# Altium schematic symbol library My.SchLib: 73 symbols
Pins are listed as number, name and electrical type; pins without a type are passive.

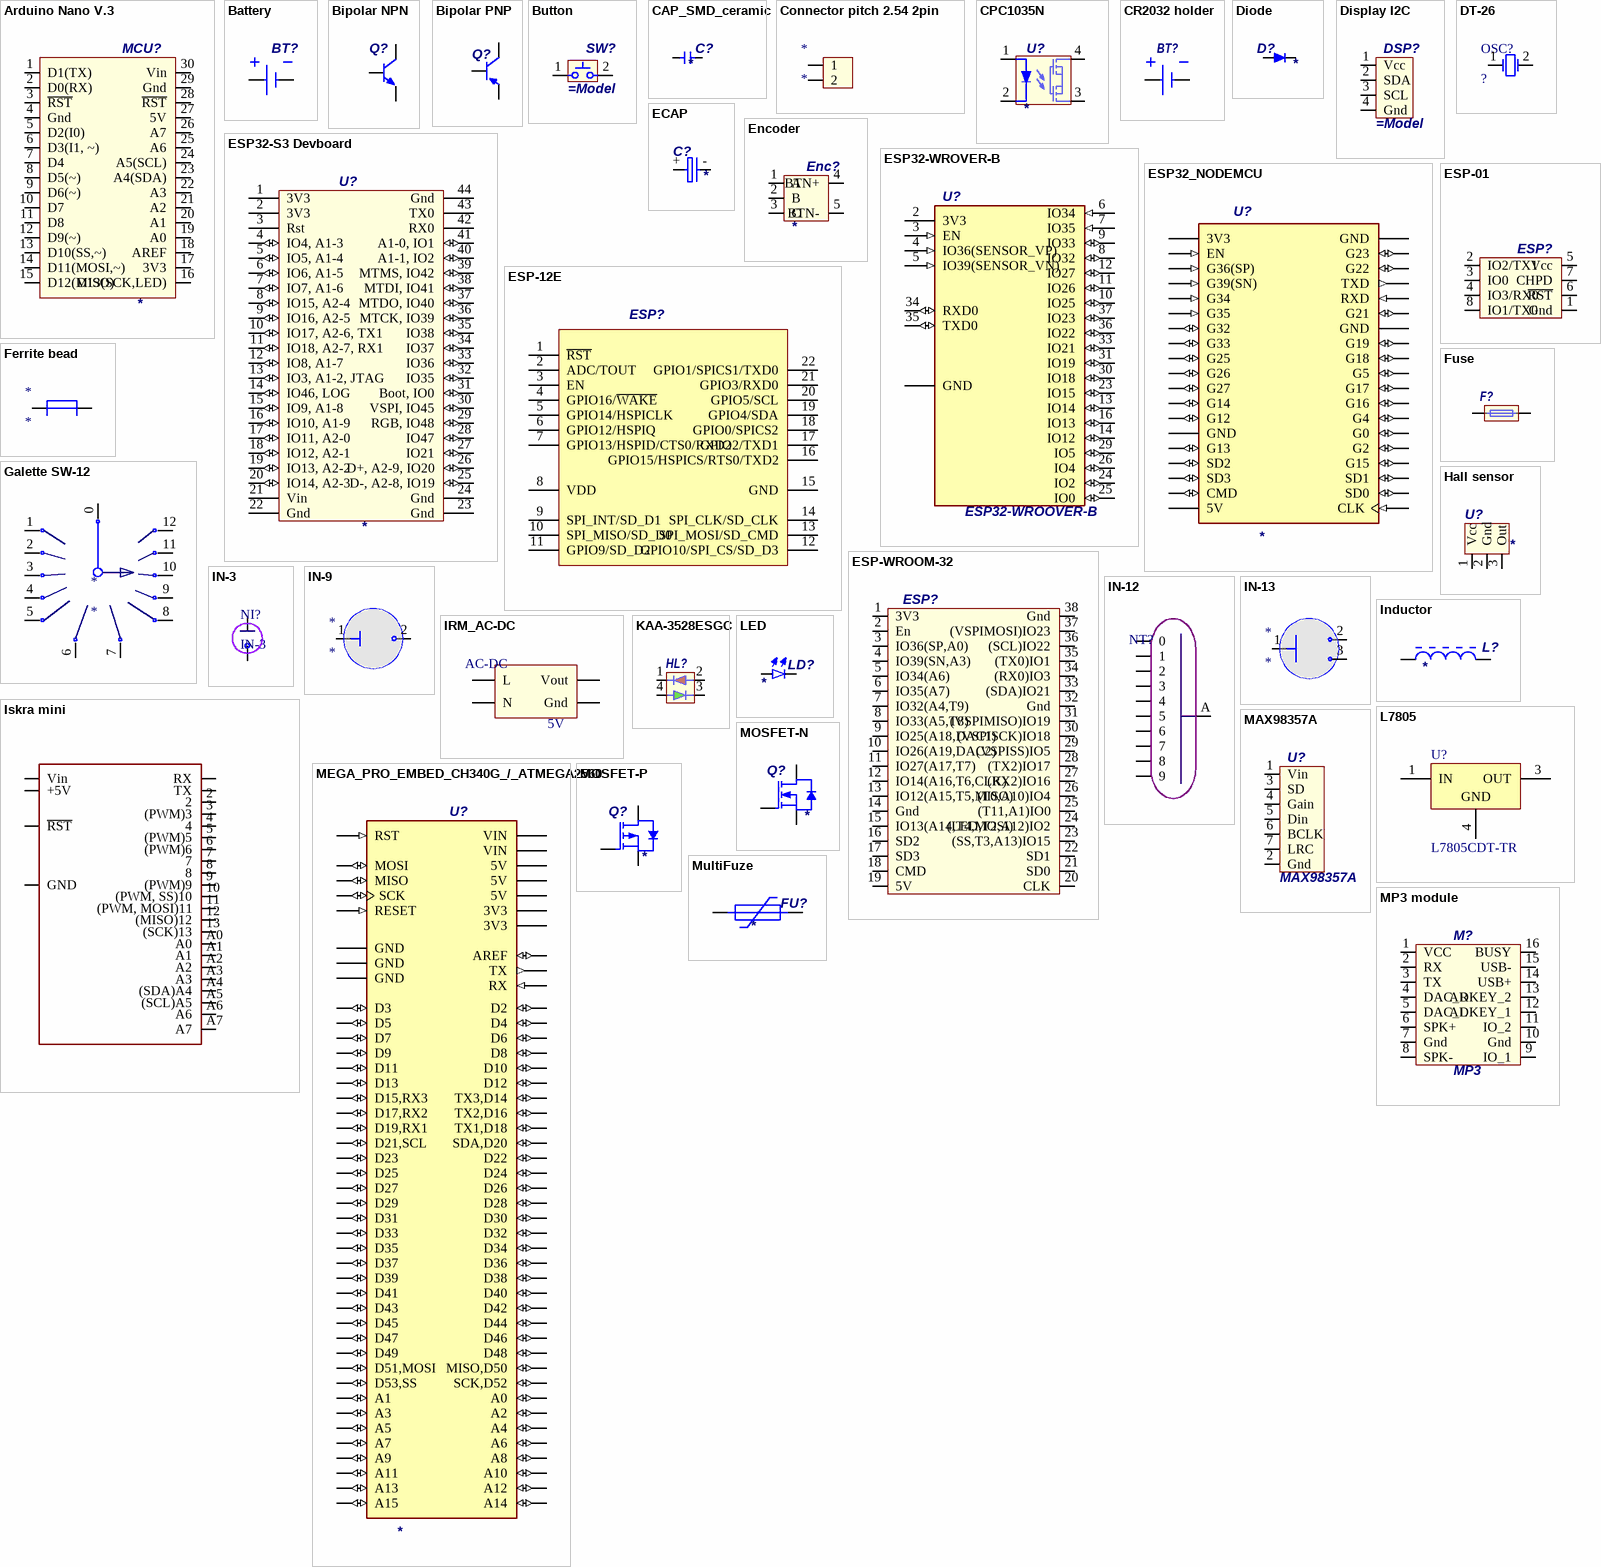
[diagram p0: symbols Arduino Nano V.3 to MultiFuze]

## Arduino Nano V.3
designator MCU?
footprint Arduino Nano V3.0
pins: 1 D1(TX), 2 D0(RX), 3 ~{RST}, 4 Gnd, 5 D2(I0), 6 D3(I1, ~), 7 D4, 8 D5(~), 9 D6(~), 10 D7, 11 D8, 12 D9(~), 13 D10(SS,~), 14 D11(MOSI,~), 15 D12(MISO), 16 D13(SCK,LED), 17 3V3, 18 AREF, 19 A0, 20 A1, 21 A2, 22 A3, 23 A4(SDA), 24 A5(SCL), 25 A6, 26 A7, 27 5V, 28 ~{RST}, 29 Gnd, 30 Vin

## Battery
designator BT?
footprint CR2032 holder (Lithium Battery Holder)
footprint CR1220_tagged (CR1220 battery with targs for soldering); pin to pad 1>2 2>1
pins: 1 +, 2 -

## Bipolar NPN
designator Q?
C-E Voltage: *; Collector current: *; Power dissipation: *
footprint SOT-23 (SOT23, 3-Leads, Body 2.9x1.3mm, Pitch 0.95mm, Lead Span 2.3mm, IPC Medium Density)
footprint SOT-223 (SOT223, 4-Leads, Body 6.5x3.5mm, Pitch 2.3mm, Lead Span 7mm, IPC Low Density)
footprint KT-13
pins: 1 B, 2 E, 3 C

## Bipolar PNP
designator Q?
C-E Voltage: *; Collector current: *; Power dissipation: *
footprint SOT-23 (SOT23, 3-Leads, Body 2.9x1.3mm, Pitch 0.95mm, Lead Span 2.3mm, IPC Medium Density)
pins: 1 B, 2 E, 3 C

## Button
designator SW?
footprint SMD button 6x6x4.3 (SMD, 4-Leads, Body 6x6mm, Pitch 4.5mm); pin to pad 1>1+2 2>3+4
footprint Btn-6x6x3; pin to pad 1>1+2 2>3+4
footprint FSMSM (SMD microbutton)
pins: 1, 2

## CAP_SMD_ceramic
designator C?
Value: *; Voltage: *
footprint CAPC0201
footprint CAPC0402
footprint CAPC0603
footprint CAPC0805
footprint CAPC1206
footprint CAPC1210
footprint CAPC1808
footprint CAPC1812
footprint CAPC1825
footprint CAPC2220
footprint CAPC2225
footprint CAPC3640
pins: 1, 2
1 alternate drawing of the same symbol

## Connector pitch 2.54 2pin
designator *
footprint HDR1X2
footprint HDR X2V
pins: 1 (power), 2 (power)

## CPC1035N
designator U?
Model: *
footprint SO-4
pins: 1, 2, 3, 4

## CR2032 holder
designator BT?
footprint CR2032 holder (Lithium Battery Holder)
pins: 1 +, 2 -

## Diode
designator D?
Model: *; Current: *; Voltade: *
footprint DO-201AD (THD, 2-Leads, Body 9.5x5.3mm)
footprint DO-240al (THD, 2-Leads, Body 5.2x2.72mm, Pin Spacing 7.8mm)
footprint SMA
footprint SMC (SMT Diode, 2 C-Bend Leads, Body 7.9x5.9mm)
footprint SMB (Molded, 2-Leads, Body 4.6x3.95mm)
pins: 1 A, 2 K

## Display I2C
designator DSP?
footprint OLED 0.91" 128x32; pin to pad 1>3 2>1 3>2
pins: 1 Vcc, 2 SDA, 3 SCL, 4 Gnd

## DT-26
designator OSC?, comment ?
footprint DT-28 (Crystal oscillator)
pins: 1 OSC1, 2 OSC2

## ECAP
designator C?
Value: *; Voltage: *
footprint CAP ElLyte D13
footprint ECAP 8*14mm
footprint ECAP 8*7mm (ECAP 8*14mm)
footprint ECAP 10*22mm_angle (ECAP 8*14mm)
pins: + 1 (power), - 2 (power)

## Encoder
designator Enc?
Model: *
pins: 1 A, 2 B, 3 C, 4 BTN+, 5 BTN-

## ESP32-S3 Devboard
designator U?
Model: *
footprint ESP32-S3 Devboard
pins: 1 3V3 (power), 2 3V3 (power), 3 Rst, 4 IO4, A1-3 (io), 5 IO5, A1-4 (io), 6 IO6, A1-5 (io), 7 IO7, A1-6 (io), 8 IO15, A2-4 (io), 9 IO16, A2-5 (io), 10 IO17, A2-6, TX1 (io), 11 IO18, A2-7, RX1 (io), 12 IO8, A1-7 (io), 13 IO3, A1-2, JTAG (io), 14 IO46, LOG (io), 15 IO9, A1-8 (io), 16 IO10, A1-9 (io), 17 IO11, A2-0 (io), 18 IO12, A2-1 (io), 19 IO13, A2-2 (io), 20 IO14, A2-3 (io), 21 Vin (power), 22 Gnd (power), 23 Gnd (power), 24 Gnd (power), 25 D-, A2-8, IO19 (io), 26 D+, A2-9, IO20 (io), 27 IO21 (io), 28 IO47 (io), 29 RGB, IO48 (io), 30 VSPI, IO45 (io), 31 Boot, IO0 (io), 32 IO35 (io), 33 IO36 (io), 34 IO37 (io), 35 IO38 (io), 36 MTCK, IO39 (io), 37 MTDO, IO40 (io), 38 MTDI, IO41 (io), 39 MTMS, IO42 (io), 40 A1-1, IO2 (io), 41 A1-0, IO1 (io), 42 RX0, 43 TX0, 44 Gnd (power)

## ESP32-WROVER-B
designator U?, comment ESP32-WROOVER-B
Bluetooth, WiFi 802.11b/g/n, Bluetooth v4.2 +EDR, Class 1, 2 and 3 Transceiver Module 2.4GHz ~ 2.5GHz PCB Trace Surface Mount; MF: Espressif Systems; MP: ESP32-WROVER-B; Value: *; Package: Module Espressif Systems; Check_prices: https://www.snapeda.com/parts/ESP32-WROVER-B/Espressif+Systems/view-part/?ref=eda; Price: None; Availability: Not in stock; SnapEDA_Link: https://www.snapeda.com/parts/ESP32-WROVER-B/Espressif+Systems/view-part/?ref=snap
footprint MODULE_ESP32-WROVER-B; pin to pad 1>1+15+38+39+40+41+42+43+44+45+46+47
pins: 1 GND (power), 2 3V3 (power), 3 EN (in), 4 IO36(SENSOR_VP) (in), 5 IO39(SENSOR_VN) (in), 6 IO34 (in), 7 IO35 (in), 8 IO32 (io), 9 IO33 (io), 10 IO25 (io), 11 IO26 (io), 12 IO27 (io), 13 IO14 (io), 14 IO12 (io), 16 IO13 (io), 23 IO15 (io), 24 IO2 (io), 25 IO0 (io), 26 IO4 (io), 29 IO5 (io), 30 IO18 (io), 31 IO19 (io), 33 IO21 (io), 34 RXD0 (io), 35 TXD0 (io), 36 IO22 (io), 37 IO23 (io)

## ESP32_NODEMCU
designator U?
NodeMCU is an open source loT platform. ESP32 is a series of low cost, low powersystem-on-chip (SoC) microcontrollers with integrated Wi-Fi & dual-mode Bluetooth.; MF: Espressif Systems; MP: ESP32 NODEMCU; SnapEDA_Link: https://www.snapeda.com/parts/ESP32%20NODEMCU/Espressif+Systems/view-part/?ref=snap; Package: Package; Value: *; Check_prices: https://www.snapeda.com/parts/ESP32%20NODEMCU/Espressif+Systems/view-part/?ref=eda
footprint MODULE_ESP32_NODEMCU
pins: J4_1 GND (power), J4_2 G23 (io), J4_3 G22 (io), J4_4 TXD (out), J4_5 RXD (in), J4_6 G21 (io), J4_7 GND (power), J4_8 G19 (io), J4_9 G18 (io), J4_10 G5 (io), J4_11 G17 (io), J4_12 G16 (io), J4_13 G4 (io), J4_14 G0 (io), J4_15 G2 (io), J4_16 G15 (io), J4_17 SD1 (io), J4_18 SD0 (io), J4_19 CLK (in), J5_1 5V (power), J5_2 CMD (io), J5_3 SD3 (io), J5_4 SD2 (io), J5_5 G13 (io), J5_6 GND (power), J5_7 G12 (io), J5_8 G14 (io), J5_9 G27 (io), J5_10 G26 (io), J5_11 G25 (io), J5_12 G33 (io), J5_13 G32 (io), J5_14 G35 (in), J5_15 G34 (in), J5_16 G39(SN) (in), J5_17 G36(SP) (in), J5_18 EN (in), J5_19 3V3 (power)

## ESP-01
designator ESP?
footprint ESP-01
pins: 1 Gnd, 2 IO2/TX1, 3 IO0, 4 IO3/RX0, 5 Vcc, 6 ~{RST}, 7 CHPD, 8 IO1/TX0

## ESP-12E
designator ESP?
footprint ESP8266 ESP-12-F
pins: 1 ~{RST} "Reset", 2 ADC/TOUT "ADC Input Or TOUT Output", 3 EN "Chip enable", 4 GPIO16/~{WAKE} "GPIO16 or Deep-Sleep Wakeup", 5 GPIO14/HSPICLK "GPIO14 or SPI CLK", 6 GPIO12/HSPIQ "GPIO12 or SPIQ", 7 GPIO13/HSPID/CTS0/RXD2 "GPIO13 or SPID", 8 VDD "Power supply", 9 SPI_INT/SD_D1 "GPIO2 or TX", 10 SPI_MISO/SD_D0 "GPIO12 or SPIQ", 11 GPIO9/SD_D2 "GPIO13 or SPID", 12 GPIO10/SPI_CS/SD_D3 "GPIO15 or SPICS", 13 SPI_MOSI/SD_CMD "GPIO14 or SPI CLK", 14 SPI_CLK/SD_CLK "GPIO0 or SPICS2", 15 GND "Power ground", 16 GPIO15/HSPICS/RTS0/TXD2 "GPIO15 or SPICS", 17 GPIO2/TXD1 "GPIO2 or TX", 18 GPIO0/SPICS2 "GPIO0 or SPICS2", 19 GPIO4/SDA "GPIO5", 20 GPIO5/SCL "GPIO4", 21 GPIO3/RXD0 "GPIO3 or UART RXD", 22 GPIO1/SPICS1/TXD0 "GPIO1 or UART TXD"

## ESP-WROOM-32
designator ESP?  (value not drawn)
footprint NodeMCU-32S
pins: 1 3V3, 2 En, 3 IO36(SP,A0), 4 IO39(SN,A3), 5 IO34(A6), 6 IO35(A7), 7 IO32(A4,T9), 8 IO33(A5,T8), 9 IO25(A18,DAC1), 10 IO26(A19,DAC2), 11 IO27(A17,T7), 12 IO14(A16,T6,CLK), 13 IO12(A15,T5,MISO), 14 Gnd, 15 IO13(A14,T4,MOSI), 16 SD2, 17 SD3, 18 CMD, 19 5V, 20 CLK, 21 SD0, 22 SD1, 23 (SS,T3,A13)IO15, 24 (LED,T2,A12)IO2, 25 (T11,A1)IO0, 26 (T0,A10)IO4, 27 (RX2)IO16, 28 (TX2)IO17, 29 (VSPISS)IO5, 30 (VSPISCK)IO18, 31 (VSPIMISO)IO19, 32 Gnd, 33 (SDA)IO21, 34 (RX0)IO3, 35 (TX0)IO1, 36 (SCL)IO22, 37 (VSPIMOSI)IO23, 38 Gnd

## Ferrite bead
designator *
footprint Ferrite bead v.1
pins: 1, 2

## Fuse
designator F?
footprint FH (Fuse)
pins: 1, 2

## Galette SW-12
designator *
pins: 0 (power), 1 (power), 2 (power), 3 (power), 4 (power), 5 (power), 6 (power), 7 (power), 8 (power), 9 (power), 10 (power), 11 (power), 12 (power)

## Hall sensor
designator U?
Model: *
footprint SIP-3
pins: 1 Vcc, 2 Gnd, 3 Out

## IN-3
designator NI?
footprint IN-3
pins: 1 A, 2 C

## IN-9
designator *
footprint IN-9
pins: 1 2, 2 1

## IN-12
designator NT?  (value not drawn)
footprint IN-12
pins: 0 (power), 1 (power), 2 (power), 3 (power), 4 (power), 5 (power), 6 (power), 7 (power), 8 (power), 9 (power), A (power)

## IN-13
designator *
footprint IN-13
pins: 1 2, 2 1, 3 1

## Inductor
designator L?
Value: *
footprint SRR1280 (SMD, 2-Leads, Body 12.5x12.5mm)
footprint CM4532
footprint SDR0805 (SMD, 2-Leads, Body Dia 7.8 mm)
footprint SDR0604 (SMD, 2-Leads, Dia 5.8mm)
footprint EC24 (TH inductor)
footprint RLB1314 (BOURNS inductor)
footprint NLCV32 (Molded Inductor, 2-Leads, Body 3.4 x 2.7 mm)
footprint L2525 (6363) (Shielded inductor)
footprint SRU8043 (Shielded inductor)
pins: 1, 2

## IRM_AC-DC
designator AC-DC  Out voltage: 5V  (hidden comment: *)
Out current: 1A; ComponentLink1Description: Datasheet; ComponentLink1URL: https://lib.chipdip.ru/868/DOC002868502.pdf
footprint IRM_AC-DC (AC-DC converter)
pins: Gnd, L, N, Vout

## Iskra mini
designator PL?, comment MC platform
Type: MC platform
footprint Iskra Mini
pins: 2, 3 (PWM)3, 4, 5 (PWM)5, 6 (PWM)6, 7, 8, 9 (PWM)9, 10 (PWM, SS)10, 11 (PWM, MOSI)11, 12 (MISO)12, 13 (SCK)13, +5V, A0, A1, A2, A3, A4 (SDA)A4, A5 (SCL)A5, A6, A7, GND, RST ~{RST}, RX, TX, Vin

## KAA-3528ESGC
designator HL?  (value not drawn)
footprint KAA-3528ESGC
pins: 1, 2, 3, 4

## L7805
designator U?, comment L7805CDT-TR
Positive Voltage Regulator, 3-Pin DPAK, Tape and Reel; PackageVersion: 2011; PackageReference: TO-252; DatasheetVersion: 16/11/2011; PackageDescription: 3-Pin Transistor Outline Package 2.28 mm Pitch, 9.7 mm Lead Span (DPAK); ComponentLink1URL: http://www.st.com; ComponentLink2Description: Datasheet; ComponentLink1Description: Manufacturer URL; ComponentLink2URL: http://www.st.com/internet/com/TECHNICAL_RESOURCES/TECHNICAL_LITERATURE/DATASHEET/CD00000444.pdf
footprint D-PAK (D-PAK, 4-Leads, Body 6.1x6.6mm, Pitch 2.28mm, Lead Span 9.8mm, IPC Low Density)
pins: 1 IN (power), 3 OUT (power), 4 GND (power)

## LED
designator LD?
Color: *; Voltage: *; Current: *; Case: *; Model: *
footprint LED_SMD_0603 (SMD, 2-Leads, Body 1.6x0.8mm)
footprint LED_SMD_0805 (Chip LED, 2-Leads, Body 2.0x1.3mm, IPC Medium Density)
footprint LED_SMD_1206 (Chip LED, 2-Leads, Body 3.2x1.6mm, IPC Medium Density)
footprint LED THD 5 mm (THD, 2-Leads, Dia 3.85mm, Height 7mm, Pin Spacing 2.54mm)
footprint LED-THD-3mm
pins: 1 A, 2 K

## MAX98357A
designator U?
3W I2S audio mudule
footprint MAX98357A module
pins: 1 Vin, 2 Gnd, 3 SD, 4 Gain, 5 Din, 6 BCLK, 7 LRC

## MEGA_PRO_EMBED_CH340G_/_ATMEGA2560
designator U?
Mega 2560 PRO (Embed) CH340G/ATmega2560-16AU; MP: MEGA_PRO_EMBED_CH340G_/_ATMEGA2560; Price: None; Value: *; Package: None; Availability: Unavailable
footprint MODULE_MEGA_PRO_EMBED_CH340G_/_ATMEGA2560
pins: 3V3_1 3V3 (power), 3V3_2 3V3 (power), 5V_1 5V (power), 5V_2 5V (power), 5V_3 5V (power), A0 (io), A1 (io), A2 (io), A3 (io), A4 (io), A5 (io), A6 (io), A7 (io), A8 (io), A9 (io), A10 (io), A11 (io), A12 (io), A13 (io), A14 (io), A15 (io), AREF (io), D2 (io), D3 (io), D4 (io), D5 (io), D6 (io), D7 (io), D8 (io), D9 (io), D10 (io), D11 (io), D12 (io), D13 (io), D14 TX3,D14 (io), D15 D15,RX3 (io), D16 TX2,D16 (io), D17 D17,RX2 (io), D18 TX1,D18 (io), D19 D19,RX1 (io), D20 SDA,D20 (io), D21 D21,SCL (io), D22 (io), D23 (io), D24 (io), D25 (io), D26 (io), D27 (io), D28 (io), D29 (io), D30 (io), D31 (io), D32 (io), D33 (io), D34 (io), D35 (io), D36 (io), D37 (io), D38 (io), D39 (io), D40 (io), D41 (io), D42 (io), D43 (io), D44 (io), D45 (io), D46 (io), D47 (io), D48 (io), D49 (io), D50 MISO,D50 (io), D51 D51,MOSI (io), D52 SCK,D52 (io), D53 D53,SS (io), GND_1 GND (power), GND_2 GND (power), GND_3 GND (power), MISO (io), MOSI (io), RESET (in), RST (in), RX (in), SCK (io), TX (out), VIN_1 VIN (power), VIN_2 VIN (power)

## MOSFET-N
designator Q?
Voltage: *; Current: *; Power dissipation: *; Model: *
footprint TO-92 (TO, Flat Index; 3 In-Line, Axial Leads; Body Dia. 4.7mm; Leads 0.56 x 0.51 mm (max)); pin to pad 1>2 2>1
footprint SOT-23 (SOT23, 3-Leads, Body 2.9x1.3mm, Pitch 0.95mm, Lead Span 2.3mm, IPC Medium Density)
footprint D-PAK (D-PAK, 4-Leads, Body 6.1x6.6mm, Pitch 2.28mm, Lead Span 9.8mm, IPC Low Density); pin to pad 2>3 3>4
footprint TO-220 (TO, Thru-Hole, Vertical, Heatsink Mounted; 3 In-Line Leads; Pitch 2.54 mm); pin to pad 2>3 3>2
footprint SO-8; pin to pad 1>4 2>1 3>8
footprint D2-PAK (D2-PAK, 4-Leads, Body 9.2x10.2mm, Pitch 2.54mm, Lead Span 15.4mm, IPC Medium Density); pin to pad 2>3 3>4
pins: 1 G, 2 S, 3 D

## MOSFET-P
designator Q?
Voltage: *; Current: *; Model: *; Parameter 3: *
footprint SOT-23 (SOT23, 3-Leads, Body 2.9x1.3mm, Pitch 0.95mm, Lead Span 2.3mm, IPC Medium Density)
footprint D-PAK (D-PAK, 4-Leads, Body 6.1x6.6mm, Pitch 2.28mm, Lead Span 9.8mm, IPC Low Density); pin to pad 2>3 3>4
pins: 1 G, 2 S, 3 D

## MP3 module
designator M?, comment MP3
footprint MP3 module
pins: 1 VCC (power), 2 RX (power), 3 TX (power), 4 DAC_R (power), 5 DAC_L (power), 6 SPK+ (power), 7 Gnd (power), 8 SPK- (power), 9 IO_1 (power), 10 Gnd (power), 11 IO_2 (power), 12 ADKEY_1 (power), 13 ADKEY_2 (power), 14 USB+ (power), 15 USB- (power), 16 BUSY (power)

## MultiFuze
designator FU?
Model: *; Current: *
footprint MF-MSMF110-16-MFG
pins: 1, 2

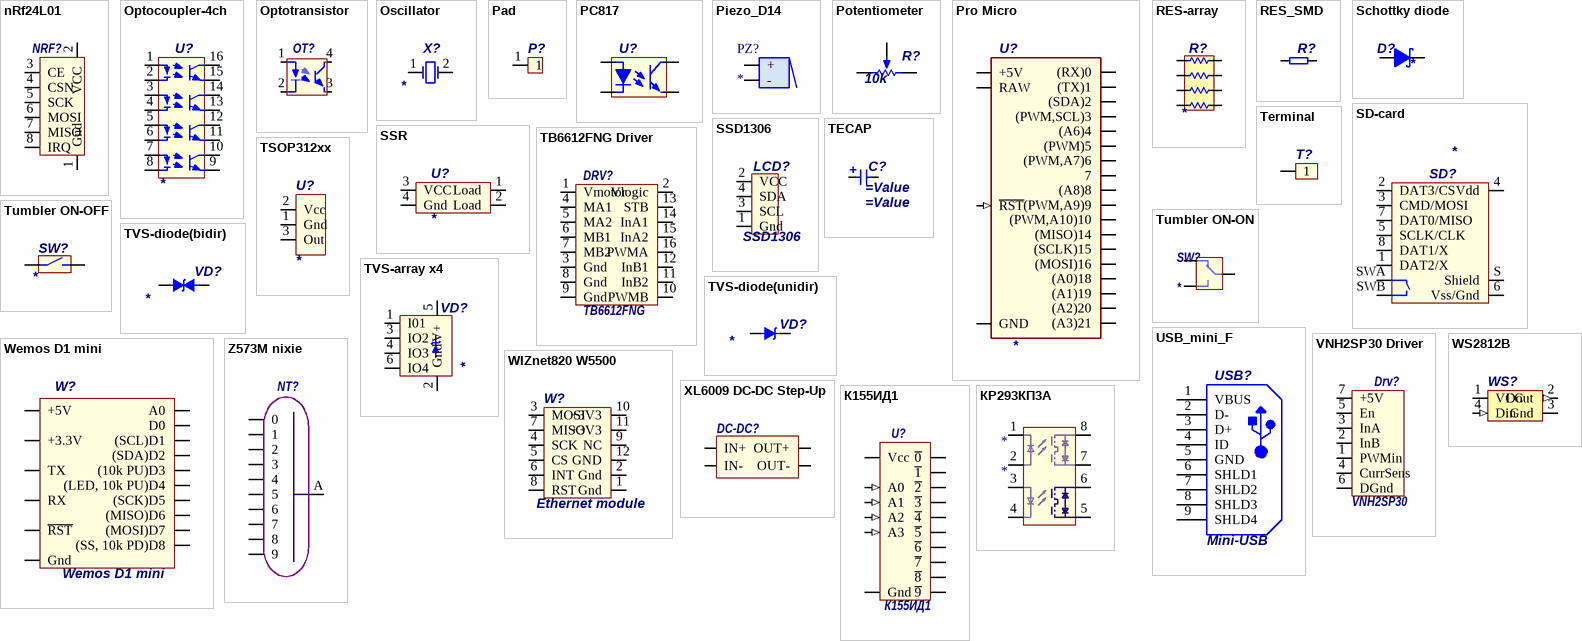
[diagram p1: symbols nRf24L01 to КР293КП3А]

## nRf24L01
designator NRF?  (value not drawn)
footprint nRF24L01+
footprint nRF24L01+SMA
pins: 1 Gnd, 2 VCC, 3 CE, 4 CSN, 5 SCK, 6 MOSI, 7 MISO, 8 IRQ

## Optocoupler-4ch
designator U?
Model: *
footprint SOP-16-OPT
pins: 1, 2, 3, 4, 5, 6, 7, 8, 9, 10, 11, 12, 13, 14, 15, 16

## Optotransistor
designator OT?
footprint SO-4
pins: 1, 2, 3, 4

## Oscillator
designator X?
Frequency: *
footprint DT-28 (Crystal oscillator)
footprint HC-49s
footprint HC-49SM
footprint HC-49U
footprint NX2520SA (Quartz oscillator); pin to pad 2>3
footprint MC146; pin to pad 2>4
pins: 1 OSC1, 2 OSC2

## Pad
designator P?  (value not drawn)
footprint PAD
pins: 1

## PC817
designator U?
footprint PC817-smd (SMD, 4-Leads, Body 6.645x4.69mm, Pitch 2.54mm)
footprint DIP-4
pins: 1 A, 2 C, 3 E, 4 C

## Piezo_D14
designator PZ?
Freq: *; Voltage: *
footprint Piezo_D14
pins: 1 +, 2 -

## Potentiometer
designator R?, comment 10k
ComponentLink1Description: Datasheet; ComponentLink1URL: https://lib.chipdip.ru/239/DOC000239027.pdf; Value: 10k
footprint PV36W
footprint 3006p (Pot-trimmer)
pins: 1 CCW, 2 WIPER, 3 CW

## Pro Micro
designator U?
footprint Pro Micro
pins: 0 (RX)0 (io), 1 (TX)1 (io), 2 (SDA)2 (io), 3 (PWM,SCL)3 (io), 4 (A6)4 (io), 5 (PWM)5 (io), 6 (PWM,A7)6 (io), 7 (io), 8 (A8)8 (io), 9 (PWM,A9)9 (io), 10 (PWM,A10)10 (io), 14 (MISO)14 (io), 15 (SCLK)15 (io), 16 (MOSI)16 (io), +5V (power), A0 (A0)18 (io), A1 (A1)19 (io), A2 (A2)20 (io), A3 (A3)21 (io), GND (power), RAW (power), RST ~{RST} (in)

## RES-array
designator R?
Value: *
footprint CAT16-4 (Chip Array, 8-Leads, Body 3.4x1.6mm, Pitch 0.8mm, IPC High Density)
pins: 1, 2, 3, 4, 5, 6, 7, 8

## RES_SMD
designator R?
Power: *
footprint RES0201
footprint RES0402
footprint RES0603
footprint RES0805
footprint RES1206
footprint RES1210
footprint RES1812
footprint RES2010
footprint RES2512
footprint SQP-10
footprint KNP200
pins: 1, 2
1 alternate drawing of the same symbol

## Schottky diode
designator D?
Model: *; Voltage: *; Current: *
footprint SMA
footprint DO-201AD (THD, 2-Leads, Body 9.5x5.3mm)
footprint DO-240al (THD, 2-Leads, Body 5.2x2.72mm, Pin Spacing 7.8mm)
footprint D2-PAK (D2-PAK, 4-Leads, Body 9.2x10.2mm, Pitch 2.54mm, Lead Span 15.4mm, IPC Medium Density); pin to pad 1>3 2>4
footprint SMB (Molded, 2-Leads, Body 4.6x3.95mm)
footprint SMC (SMT Diode, 2 C-Bend Leads, Body 7.9x5.9mm)
footprint TO-220 (TO, Thru-Hole, Vertical, Heatsink Mounted; 3 In-Line Leads; Pitch 2.54 mm); pin to pad 1>1+3
footprint SOD-123 (SMD, 2-Leads, Body 2.7x1.55mm, Height 1.35mm)
footprint SOD-323
pins: 1 A, 2 K

## SD-card
designator SD?
Model: *
footprint DM3AT-SF-PEJM5 (MicroSD cardholder push-push)
pins: 1 DAT2/X, 2 DAT3/CS, 3 CMD/MOSI, 4 Vdd, 5 SCLK/CLK, 6 Vss/Gnd, 7 DAT0/MISO, 8 DAT1/X, S Shield, SWA A, SWB B

## SSD1306
designator LCD?
footprint SSD1306
pins: 1 Gnd, 2 VCC, 3 SCL, 4 SDA

## SSR
designator U?
Model: *
footprint SIP-4_G3MB
pins: 1 Load, 2 Load, 3 VCC, 4 Gnd

## TB6612FNG Driver
designator DRV?, comment TB6612FNG
footprint TB6612FNG Driver (DC motor driver 2CH)
pins: 1 Vmotor, 2 Vlogic, 3 Gnd, 4 MA1, 5 MA2, 6 MB1, 7 MB2, 8 Gnd, 9 Gnd, 10 PWMB, 11 InB2, 12 InB1, 13 STB, 14 InA1, 15 InA2, 16 PWMA

## TECAP
designator C?
Solid Tantalum Chip Capacitor, Standard T491 Series - Industrial Grade; Voltage: 10V; Published: 17-Jul-2002; LatestRevisionDate: 19-Mar-2004; LatestRevisionNote: Silkscreen dimensions re-sized.; DatasheetDocument: Mar-2001; PackageDocument: Mar-2001; PackageReference: A; Publisher: Altium Limited; Code_JEITA: 3216-18; ComponentLink1Description: Manufacturer Link; ComponentLink1URL: http://www.kemet.com/; ComponentLink2Description: Datasheet; ComponentLink2URL: http://www.kemet.com/kemet/web/homepage/kechome.nsf/vapubfilesname/F3102TA.pdf/$file/F3102TA.pdf; Value: =Value
simulation model CAP (Capacitor)
signal-integrity model T491A
footprint TECAP-A (Capacitor, SM Tantalum; Body 3.2 x 1.6 mm (LxW typ))
footprint TECAP-B (Capacitor, SM Tantalum; Body 3.5 x 2.8 mm (LxW typ))
footprint TECAP-C (Capacitor, SM Tantalum; Body 6.0 x 3.2 mm (LxW typ))
footprint TECAP-D (Capacitor, SM Tantalum; Body 7.3 x 4.3 mm (LxW typ))
footprint TECAP-E (Capacitor, SM Tantalum; Body 7.3 x 6.0 mm (LxW typ))
pins: 1, 2
1 alternate drawing of the same symbol

## Terminal
designator T?  (value not drawn)
footprint Terminal (Connection terminal)
pins: 1

## TSOP312xx
designator U?
Model: *; Frequency: *
footprint TSOP312xx-Stand
footprint TSOP312xx-FLAT
pins: 1 Gnd, 2 Vcc, 3 Out

## Tumbler ON-OFF
designator SW?
Model: *
footprint DS1040-01
pins: 1, 2

## Tumbler ON-ON
designator SW?
Model: *
footprint MTS-102
footprint SS12F23
pins: 1, 2, 3

## TVS-array x4
designator VD?
TVS-diode array; Model: *
footprint SOT-23-6 (SOT23, 5-Leads, Body 2.15x1.4mm, Pitch 0.65mm, IPC Medium Density)
pins: 1 I01, 2 Gnd, 3 IO2, 4 IO3, 5 V+, 6 IO4

## TVS-diode(bidir)
designator VD?
Model: *; Vbr: *; Ppp: *; Iimp: *
footprint SMA
footprint SMB (Molded, 2-Leads, Body 4.6x3.95mm)
footprint SMC (SMT Diode, 2 C-Bend Leads, Body 7.9x5.9mm)
footprint SOD-323
pins: 1, 2

## TVS-diode(unidir)
designator VD?
Model: *; Vbr: *; Ppp: *; Iimp: *
footprint SMA
footprint SMB (Molded, 2-Leads, Body 4.6x3.95mm)
footprint SMC (SMT Diode, 2 C-Bend Leads, Body 7.9x5.9mm)
pins: 1, 2

## USB_mini_F
designator USB?, comment Mini-USB
footprint USB_mini_F
pins: 1 VBUS (power), 2 D-, 3 D+, 4 ID, 5 GND (power), 6 SHLD1, 7 SHLD2, 8 SHLD3, 9 SHLD4

## VNH2SP30 Driver
designator Drv?, comment VNH2SP30
footprint VNH2SP30 Module (VNH2SP30 collector DC motor driver module)
pins: 1 PWMin, 2 InB, 3 InA, 4 CurrSens, 5 En, 6 DGnd, 7 +5V

## Wemos D1 mini
designator W?
footprint Wemos D1 mini
pins: +3.3V, +5V, A0, D0, D1 (SCL)D1, D2 (SDA)D2, D3 (10k PU)D3, D4 (LED, 10k PU)D4, D5 (SCK)D5, D6 (MISO)D6, D7 (MOSI)D7, D8 (SS, 10k PD)D8, Gnd, RST ~{RST}, RX, TX

## WIZnet820 W5500
designator W?, comment Ethernet module
footprint WIZ820io
pins: 1 Gnd, 2 Gnd, 3 MOSI, 4 SCK, 5 CS, 6 INT, 7 MISO, 8 RST, 9 NC, 10 +3V3, 11 +3V3, 12 GND

## WS2812B
designator WS?
footprint WS2812B (SMD, 4-Leads, Body 5x5mm, Pitch 3.3mm)
pins: 1 VCC (power) "Ground", 2 Dout (out) "Control data signal output", 3 Gnd (power) "Power supply LED", 4 Din (in) "Control data signal input"

## XL6009 DC-DC Step-Up
designator DC-DC?
footprint XL6009 DC-DC Step-Up
pins: IN+, IN-, OUT+, OUT-

## Z573M nixie
designator NT?  (value not drawn)
footprint Z573M
pins: 0 (power), 1 (power), 2 (power), 3 (power), 4 (power), 5 (power), 6 (power), 7 (power), 8 (power), 9 (power), A (power)

## К155ИД1
designator U?
footprint DIP-16 (DIP, 16-Pin, Row Spacing 7.62 mm, Pitch 2.54 mm)
pins: 1 ~{8} (power), 2 ~{9} (power), 3 A0 (in), 4 A3 (in), 5 Vcc (power), 6 A1 (in), 7 A2 (in), 8 ~{2} (power), 9 ~{3} (power), 10 ~{7} (power), 11 ~{6} (power), 12 Gnd (power), 13 ~{4} (power), 14 ~{5} (power), 15 ~{1} (power), 16 ~{0} (power)

## КР293КП3А
designator *
footprint DIP-8 (DIP, 8-Pin, Row Spacing 7.62 mm, Pitch 2.54 mm)
pins: 1 C1 (power), 2 A1 (power), 3 A2 (power), 4 C2 (power), 5 L1T1 (power), 6 L1T2 (power), 7 L2T1 (power), 8 L2T2 (power)